# Altium footprint library VREG_LM2596SX-5.0_NOPB.PcbLib: 1 footprints
Each footprint in its own frame and in the unit in brackets; x right, y up, seen from the top. Pads: shape width x height; smd on the part's side, far side on the other; paste and mask are expansions set on the pad; w line width, h text height; cw(c..) or ccw(c..) is an arc to the next point about the centre after c.
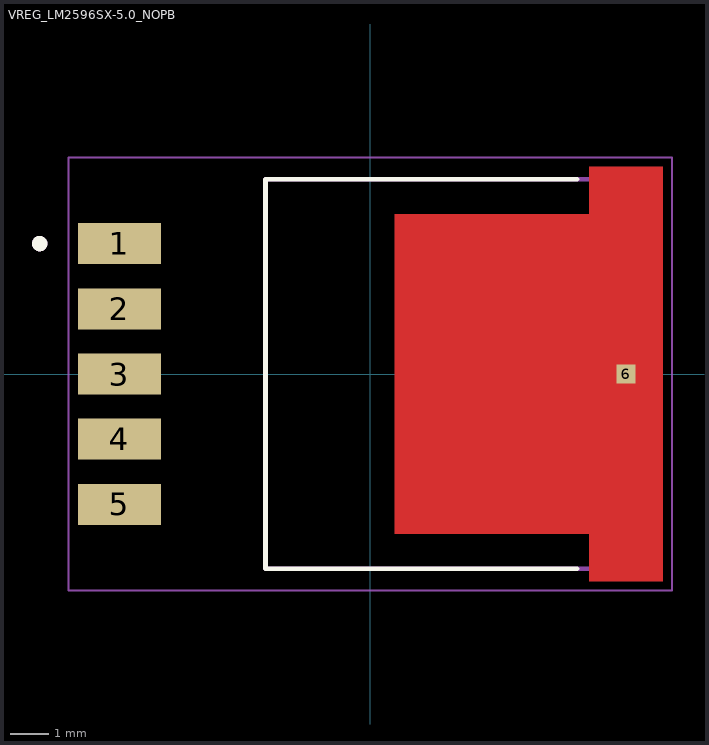
[diagram p0: the footprint, top view; thin cyan lines are the x and y axes]

## VREG_LM2596SX-5.0_NOPB [mm]
height 4.65
pads (6):
  rect 2.16x1.07 smd: 1(-6.545,3.4) 2(-6.545,1.7) 3(-6.545,0) 4(-6.545,-1.7) 5(-6.545,-3.4)
  rect 0.5x0.5 smd paste-1 mask+0: 6(6.67,0)
Top Layer:
  region: 7.625,-5.4 5.715,-5.4 5.715,-4.165 0.635,-4.165 0.635,4.165 5.715,4.165 5.715,5.4 7.625,5.4
Top Overlay:
  circle w0.2: c-8.625,3.4 r0.1
  lines w0.127: 5.395,-5.08 -2.735,-5.08 -2.735,5.08 5.395,5.08
Top Paste:
  region: 2.605,0.285 1.205,0.285 1.205,1.795 2.605,1.795
  region: 2.605,2.365 1.205,2.365 1.205,3.875 2.605,3.875
  region: 5.145,0.285 3.745,0.285 3.745,1.795 5.145,1.795
  region: 5.145,2.365 3.745,2.365 3.745,3.875 5.145,3.875
  region: 2.605,-1.795 1.205,-1.795 1.205,-0.285 2.605,-0.285
  region: 5.145,-1.795 3.745,-1.795 3.745,-0.285 5.145,-0.285
  region: 2.605,-3.875 1.205,-3.875 1.205,-2.365 2.605,-2.365
  region: 5.145,-3.875 3.745,-3.875 3.745,-2.365 5.145,-2.365
  region: 7.095,0.065 6.245,0.065 6.245,1.285 7.095,1.285
  region: 7.095,1.415 6.245,1.415 6.245,2.635 7.095,2.635
  region: 7.095,2.765 6.245,2.765 6.245,3.985 7.095,3.985
  region: 7.095,4.115 6.245,4.115 6.245,5.335 7.095,5.335
  region: 7.095,-1.285 6.245,-1.285 6.245,-0.065 7.095,-0.065
  region: 7.095,-2.635 6.245,-2.635 6.245,-1.415 7.095,-1.415
  region: 7.095,-3.985 6.245,-3.985 6.245,-2.765 7.095,-2.765
  region: 7.095,-5.335 6.245,-5.335 6.245,-4.115 7.095,-4.115
Top Solder:
  region: 7.725,-5.5 5.615,-5.5 5.615,-4.265 0.535,-4.265 0.535,4.265 5.615,4.265 5.615,5.5 7.725,5.5
Mechanical 13:
  circle w0.2: c-8.625,3.4 r0.1
  lines w0.127: -2.735,-5.08 -2.735,5.08 5.905,5.08 5.905,-5.08 -2.735,-5.08
Mechanical 15:
  lines w0.05: -7.875,-5.65 -7.875,5.65 7.875,5.65 7.875,-5.65 -7.875,-5.65
3D body "step_temp.STEP": height 4.65, standoff -0.15, extent -7.175,-5.08 7.175,5.08